# Altium footprint library SMD Resistor.PcbLib: 10 footprints
Each footprint in its own frame and in the unit in brackets; x right, y up, seen from the top. Pads: shape width x height; smd on the part's side, far side on the other; paste and mask are expansions set on the pad; w line width, h text height; cw(c..) or ccw(c..) is an arc to the next point about the centre after c.
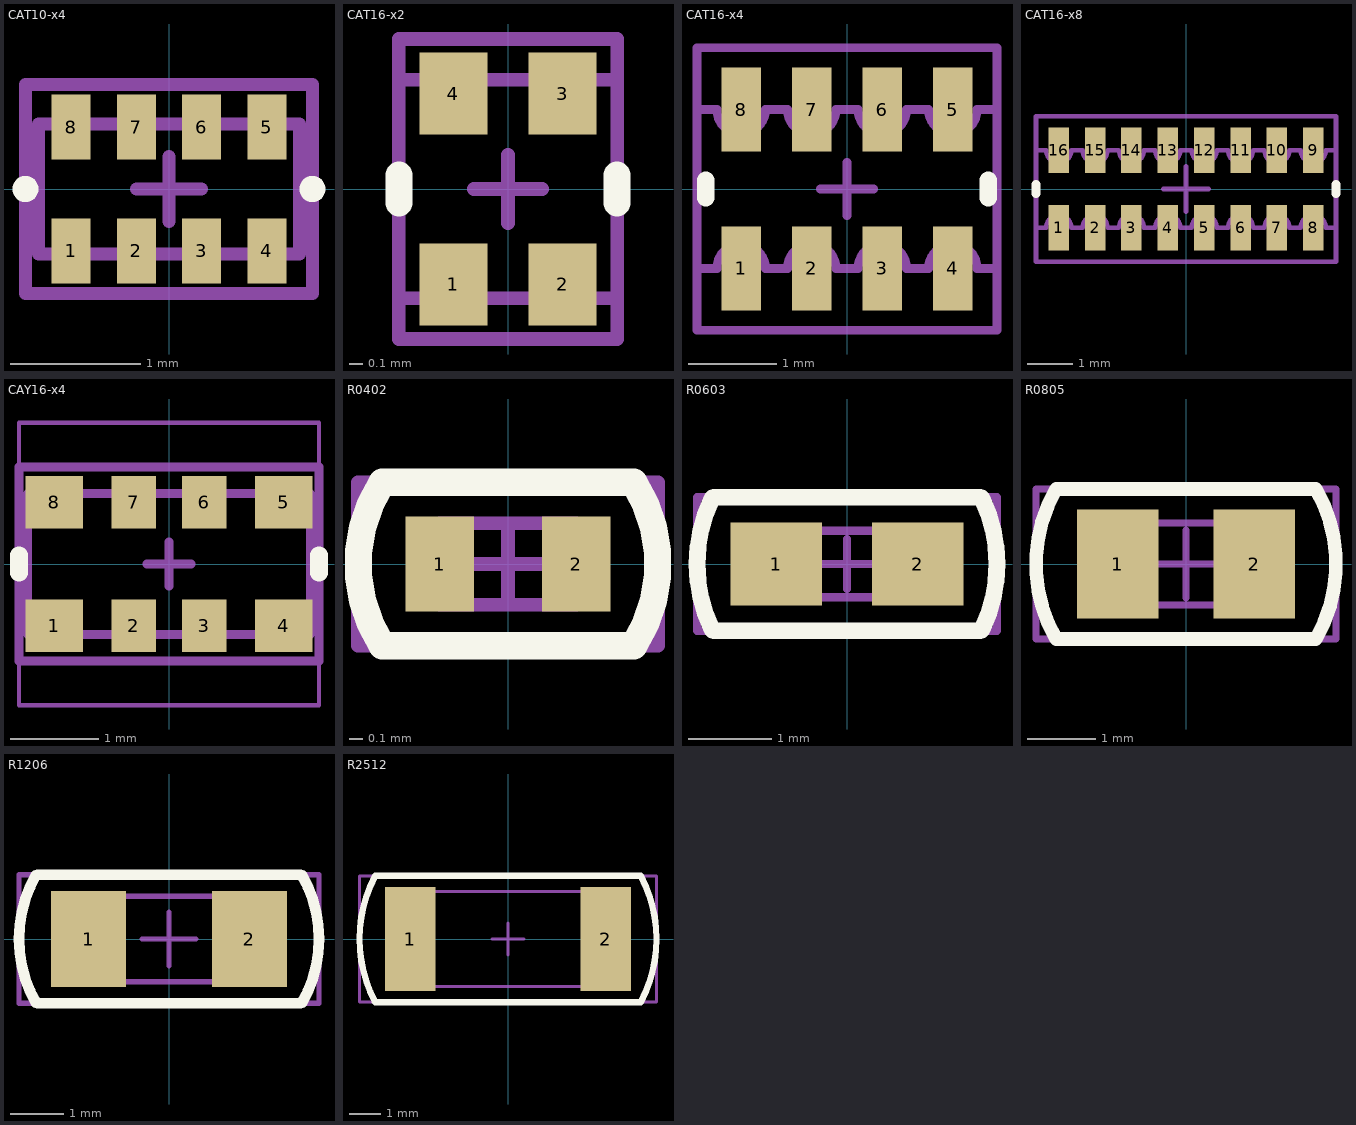
[diagram p0: the footprints below, top view; thin cyan lines are the x and y axes]

## CAT10-x4 [mm]
height 0.4
pads (8):
  rect 0.3x0.5 smd: 1(-0.75,-0.475) 2(-0.25,-0.475) 3(0.25,-0.475) 4(0.75,-0.475) 5(0.75,0.475) 6(0.25,0.475) 7(-0.25,0.475) 8(-0.75,0.475)
Top Overlay:
  circle w0.1: c-1.1,0 r0.05
  circle w0.1: c1.1,0 r0.05
Mechanical 7:
  lines w0.05: -1.1,-0.8 -1.1,0.8 1.1,0.8 1.1,-0.8 -1.1,-0.8
  text ".Designator" at -1,-0.25 h1
Mechanical 13:
  lines w0.1: -1,-0.5 1,-0.5 1,0.5 -1,0.5 -1,-0.5
Mechanical 15:
  lines w0.1: -0.25,0 0.25,0 ; 0,-0.25 0,0.25 ; -1.1,-0.8 -1.1,0.8 1.1,0.8 1.1,-0.8 -1.1,-0.8
3D body "User Library-CAT10-000.STEP": height 0.4, standoff 0, extent -1,-0.5 1,0.5

## CAT16-x2 [mm]
height 0.5
pads (4):
  rect 0.5x0.6 smd: 1(-0.4,-0.7) 2(0.4,-0.7) 3(0.4,0.7) 4(-0.4,0.7)
Top Overlay:
  lines w0.2: -0.8,-0.1 -0.8,0.1 ; 0.8,-0.1 0.8,0.1
Mechanical 7:
  lines w0.05: -0.8,-1.1 -0.8,1.1 0.8,1.1 0.8,-1.1 -0.8,-1.1
  text ".Designator" at 0.25,-1 h0.7
Mechanical 13:
  lines w0.1: -0.8,-0.8 -0.8,0.8 0.8,0.8 0.8,-0.8 -0.8,-0.8
Mechanical 15:
  lines w0.1: -0.25,0 0.25,0 ; 0,-0.25 0,0.25 ; -0.8,-1.1 0.8,-1.1 0.8,1.1 -0.8,1.1 -0.8,-1.1

## CAT16-x4 [mm] "Chip Array, Concave, 8-Leads, Pitch 0,80mm,  Body 3,20x1,60mm,  IPC Medium Density"
height 0.6
pads (8):
  rect 0.45x0.95 smd: 1(-1.2,-0.9) 2(-0.4,-0.9) 3(0.4,-0.9) 4(1.2,-0.9) 5(1.2,0.9) 6(0.4,0.9) 7(-0.4,0.9) 8(-1.2,0.9)
Top Overlay:
  lines w0.2: -1.6,-0.1 -1.6,0.1 ; 1.6,-0.1 1.6,0.1
Mechanical 7:
  lines w0.05: -1.7,-1.6 1.7,-1.6 1.7,1.6 -1.7,1.6 -1.7,-1.6
  text ".Designator" at -1.5,-0.25 h1.2
Mechanical 13:
  lines w0.1: -1.7,-0.9 -1.475,-0.9 cw(c-1.2,-0.9) -0.925,-0.9 -0.675,-0.9 cw(c-0.4,-0.9) -0.125,-0.9 0.125,-0.9 cw(c0.4,-0.9) 0.675,-0.9 0.925,-0.9 cw(c1.2,-0.9) 1.475,-0.9 1.7,-0.9 1.7,0.9 1.475,0.9 cw(c1.2,0.9) 0.925,0.9 0.675,0.9 cw(c0.4,0.9) 0.125,0.9 -0.125,0.9 cw(c-0.4,0.9) -0.675,0.9 -0.925,0.9 cw(c-1.2,0.9) -1.475,0.9 -1.7,0.9 -1.7,-0.9
Mechanical 15:
  lines w0.1: -0.3,0 0.3,0 ; 0,-0.3 0,0.3 ; -1.7,-1.6 -1.7,1.6 1.7,1.6 1.7,-1.6 -1.7,-1.6
3D body "CAC-80P319X159-8N.step": height 0.6, standoff 0, extent -1.7,-0.95 1.7,0.95

## CAT16-x8 [mm] "Chip Array, Concave, 16-Leads, Pitch 0,80mm,  Body 4,90x1,60mm,  IPC Medium Density"
height 0.6
pads (16):
  rect 0.45x1 smd: 1(-2.8,-0.85) 2(-2,-0.85) 3(-1.2,-0.85) 4(-0.4,-0.85) 5(0.4,-0.85) 6(1.2,-0.85) 7(2,-0.85) 8(2.8,-0.85) 9(2.8,0.85) 10(2,0.85) 11(1.2,0.85) 12(0.4,0.85) 13(-0.4,0.85) 14(-1.2,0.85) 15(-2,0.85) 16(-2.8,0.85)
Top Overlay:
  lines w0.2: -3.3,-0.1 -3.3,0.1 ; 3.3,-0.1 3.3,0.1
Mechanical 7:
  lines w0.05: -3.3,-1.6 3.3,-1.6 3.3,1.6 -3.3,1.6 -3.3,-1.6
  text ".Designator" at -1.5,-0.25 h1.2
Mechanical 13:
  lines w0.1: -3.3,-0.85 -3.3,0.85 -3.075,0.85 ccw(c-2.8,0.85) -2.525,0.85 -2.275,0.85 ccw(c-2,0.85) -1.725,0.85 -1.475,0.85 ccw(c-1.2,0.85) -0.925,0.85 -0.675,0.85 ccw(c-0.4,0.85) -0.125,0.85 0.125,0.85 ccw(c0.4,0.85) 0.675,0.85 0.925,0.85 ccw(c1.2,0.85) 1.475,0.85 1.725,0.85 ccw(c2,0.85) 2.275,0.85 2.525,0.85 ccw(c2.8,0.85) 3.075,0.85 3.3,0.85 3.3,-0.85 3.075,-0.85 ccw(c2.8,-0.85) 2.525,-0.85 2.275,-0.85 ccw(c2,-0.85) 1.725,-0.85 1.475,-0.85 ccw(c1.2,-0.85) 0.925,-0.85 0.675,-0.85 ccw(c0.4,-0.85) 0.125,-0.85 -0.125,-0.85 ccw(c-0.4,-0.85) -0.675,-0.85 -0.925,-0.85 ccw(c-1.2,-0.85) -1.475,-0.85 -1.725,-0.85 ccw(c-2,-0.85) -2.275,-0.85 -2.525,-0.85 ccw(c-2.8,-0.85) -3.075,-0.85 -3.3,-0.85
Mechanical 15:
  lines w0.1: -0.5,0 0.5,0 ; 0,-0.5 0,0.5 ; -3.3,-1.6 3.3,-1.6 3.3,1.6 -3.3,1.6 -3.3,-1.6
3D body "CAC-80P489X159-16N.step": height 0.6, standoff 0, extent -3.3,-0.95 3.3,0.95

## CAY16-x4 [mm]
pads (8):
  rect 0.65x0.6 smd: 1(-1.3,-0.7) 4(1.3,-0.7) 5(1.3,0.7) 8(-1.3,0.7)
  rect 0.5x0.6 smd: 2(-0.4,-0.7) 3(0.4,-0.7) 6(0.4,0.7) 7(-0.4,0.7)
Top Overlay:
  lines w0.2: -1.7,-0.1 -1.7,0.1 ; 1.7,-0.1 1.7,0.1
Mechanical 7:
  lines w0.05: -1.7,-1.6 -1.7,1.6 1.7,1.6 1.7,-1.6 -1.7,-1.6
  text ".Designator" at -1.5,-0.25 h1.2
Mechanical 13:
  lines w0.1: -1.6,-0.8 1.6,-0.8 1.6,0.8 -1.6,0.8 -1.6,-0.8
  text "Check!" at -3,-0.3 h1.52
Mechanical 15:
  lines w0.1: -0.25,0 0.25,0 ; 0,-0.25 0,0.25 ; -1.7,-1.1 -1.7,1.1 1.7,1.1 1.7,-1.1 -1.7,-1.1
3D body "User Library-Array-1206-4Way-Var2-1.STEP": height 0.5, standoff 0, extent -1.6,-0.8 1.6,0.8

## R0402 [mm] "1005M"
height 0.4
pads (2):
  rect 0.5x0.7 smd: 1(-0.5,0) 2(0.5,0)
Top Overlay:
  lines w0.2: -0.923,-0.599 cw(c0,0) -0.923,0.599 ; -0.9,-0.6 0.9,-0.6 ; -0.9,0.6 0.9,0.6 ; 0.923,-0.599 ccw(c0,0) 0.923,0.599
Mechanical 7:
  lines w0.05: -1.1,-0.6 -1.1,0.6 1.1,0.6 1.1,-0.6 -1.1,-0.6
  text ".Designator" at -0.7,-0.2 h0.7
Mechanical 13:
  lines w0.1: -0.5,-0.3 -0.5,0.3 0.5,0.3 0.5,-0.3 -0.5,-0.3
Mechanical 15:
  lines w0.1: -0.25,0 0.25,0 ; 0,-0.25 0,0.25 ; -1.1,-0.6 1.1,-0.6 1.1,0.6 -1.1,0.6 -1.1,-0.6
3D body "User Library-Chip Resistor2.step": height 0.4, standoff 0, extent -0.5,-0.25 0.5,0.25

## R0603 [mm] "1608M"
height 0.6
pads (2):
  rect 1.1x1 smd: 1(-0.85,0) 2(0.85,0)
Top Overlay:
  lines w0.2: -1.615,-0.795 cw(c0,0) -1.615,0.795 ; -1.6,-0.8 1.6,-0.8 ; -1.6,0.8 1.6,0.8 ; 1.615,-0.795 ccw(c0,0) 1.615,0.795
Mechanical 7:
  lines w0.05: -1.8,-0.8 1.8,-0.8 1.8,0.8 -1.8,0.8 -1.8,-0.8
  text ".Designator" at -1.1,-0.3 h1
Mechanical 13:
  lines w0.1: -0.8,-0.4 0.8,-0.4 0.8,0.4 -0.8,0.4 -0.8,-0.4
Mechanical 15:
  lines w0.1: -0.3,0 0.3,0 ; 0,-0.3 0,0.3 ; -1.8,-0.8 1.8,-0.8 1.8,0.8 -1.8,0.8 -1.8,-0.8
3D body "User Library-Chip Resistor2.step": height 0.38, standoff 0, extent -0.8,-0.4 0.8,0.4

## R0805 [mm] "2012M"
height 1
pads (2):
  rect 1.2x1.6 smd: 1(-1,0) 2(1,0)
Top Overlay:
  lines w0.2: -1.915,1.083 ccw(c0,0) -1.91,-1.092 ; -1.9,-1.1 1.9,-1.1 ; -1.9,1.1 1.9,1.1 ; 1.91,1.092 cw(c0,0) 1.915,-1.083
Mechanical 7:
  lines w0.05: -2.2,-1.1 -2.2,1.1 2.2,1.1 2.2,-1.1 -2.2,-1.1
  text ".Designator" at -2,-0.25 h1.2
Mechanical 13:
  lines w0.1: -1,-0.6 1,-0.6 1,0.6 -1,0.6 -1,-0.6
Mechanical 15:
  lines w0.1: -0.5,0 0.5,0 ; 0,-0.5 0,0.5 ; -2.2,-1.1 -2.2,1.1 2.2,1.1 2.2,-1.1 -2.2,-1.1
3D body "User Library-Chip Resistor2.step": height 0.5, standoff 0, extent -1,-0.6 1,0.6

## R1206 [mm] "3216M"
height 1.6
pads (2):
  rect 1.4x1.8 smd: 1(-1.5,0) 2(1.5,0)
Top Overlay:
  lines w0.2: -2.484,-1.191 cw(c-0.4,0) -2.484,1.191 ; -2.45,-1.2 2.45,-1.2 ; -2.45,1.2 2.45,1.2 ; 2.484,-1.191 ccw(c0.4,0) 2.484,1.191
Mechanical 7:
  lines w0.05: -2.8,-1.2 -2.8,1.2 2.8,1.2 2.8,-1.2 -2.8,-1.2
  text ".Designator" at -2.5,-0.25 h1.5
Mechanical 13:
  lines w0.1: -1.6,-0.8 -1.6,0.8 1.6,0.8 1.6,-0.8 -1.6,-0.8
Mechanical 15:
  lines w0.1: -0.5,0 0.5,0 ; 0,-0.5 0,0.5 ; -2.8,-1.2 2.8,-1.2 2.8,1.2 -2.8,1.2 -2.8,-1.2
3D body "User Library-Chip Resistor2.step": height 0.6, standoff 0, extent -1.6,-0.8 1.6,0.8

## R2512 [mm] "6432M"
height 0.71
pads (2):
  rect 1.6x3.3 smd: 1(-3.1,0) 2(3.1,0)
Top Overlay:
  lines w0.2: -4.215,-1.983 cw(c-0.4,0) -4.211,1.992 ; -4.2,-2 4.2,-2 ; -4.2,2 4.2,2 ; 4.211,-1.992 ccw(c0.4,0) 4.211,1.992
Mechanical 7:
  lines w0.05: -4.7,-2 4.7,-2 4.7,2 -4.7,2 -4.7,-2
  text ".Designator" at -2.5,-0.25 h1.5
Mechanical 13:
  lines w0.1: -3.2,-1.5 -3.2,1.5 3.2,1.5 3.2,-1.5 -3.2,-1.5
Mechanical 15:
  lines w0.1: -0.5,0 0.5,0 ; 0,-0.5 0,0.5 ; -4.7,-2 4.7,-2 4.7,2 -4.7,2 -4.7,-2
3D body "User Library-Chip Resistor2.step": height 0.7, standoff 0, extent -3.2,-1.6 3.2,1.6